# Altium integrated library usb-a 2.0.IntLib: 1 symbol
Pins are listed as number, name and electrical type; pins without a type are passive.

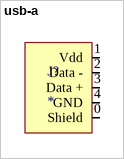
[diagram p0: symbol usb-a]

## usb-a
designator J?
Usb-A 2.0 surface mount
footprint usb-A
pins: 0 Shield, 1 Vdd, 2 Data -, 3 Data +, 4 GND